# Altium schematic symbol library MAX11614EEE+.Schlib: 1 symbol
Pins are listed as number, name and electrical type; pins without a type are passive.

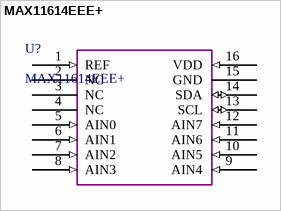
[diagram p0: symbol MAX11614EEE+]

## MAX11614EEE+
designator U?
pins: 1 REF (in), 2 NC, 3 NC, 4 NC, 5 AIN0 (in), 6 AIN1 (in), 7 AIN2 (in), 8 AIN3 (in), 9 AIN4 (in), 10 AIN5 (in), 11 AIN6 (in), 12 AIN7 (in), 13 SCL (io), 14 SDA (io), 15 GND, 16 VDD (in)